# EAGLE library part MAX4069 (library ecssr-Pwr)
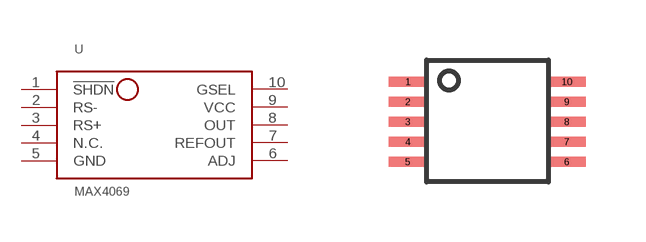
[diagram p1: symbol with the pads of UMAX; footprint UMAX]

Designator prefix -

## MAX4069  [UMAX]
1  !SHDN  in
2  RS-  pas
3  RS+  pas
4  N.C.  pwr
5  GND  pwr
6  ADJ  pas
7  REFOUT  pas
8  OUT  pas
9  VCC  pwr
10  GSEL  pas

## Footprint UMAX (pad centres in mm)
smd 0.94 x 0.254: 1 -1.358,0.193; 2 -1.358,-0.307; 3 -1.358,-0.808; 4 -1.358,-1.308; 5 -1.358,-1.808; 6 2.616,-1.808; 7 2.616,-1.308; 8 2.616,-0.808; 9 2.616,-0.307; 10 2.616,0.193